# EAGLE library part DRV8302 (library cheetah_driver_2)
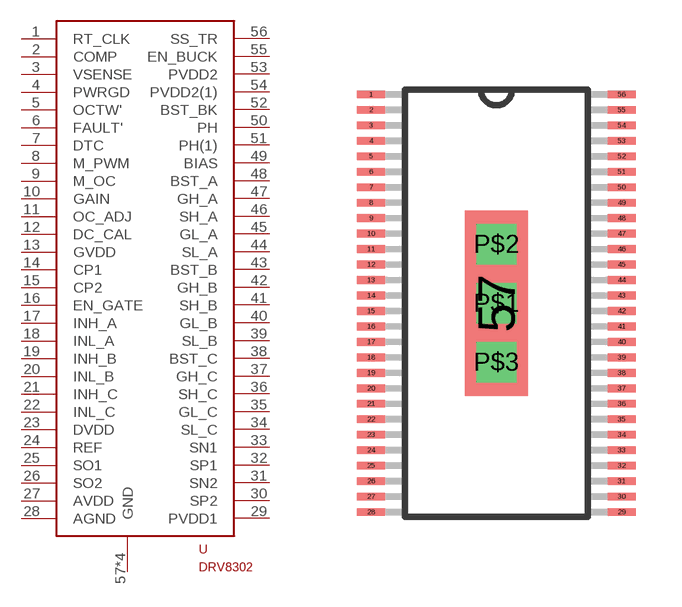
[diagram p0: symbol with the pads of HTSSOP56; footprint HTSSOP56]

Designator prefix -

## DRV8302  [HTSSOP56]
1  RT_CLK
2  COMP
3  VSENSE
4  PWRGD
5  OCTW'
6  FAULT'
7  DTC
8  M_PWM
9  M_OC
10  GAIN
11  OC_ADJ
12  DC_CAL
13  GVDD
14  CP1
15  CP2
16  EN_GATE
17  INH_A
18  INL_A
19  INH_B
20  INL_B
21  INH_C
22  INL_C
23  DVDD
24  REF
25  SO1
26  SO2
27  AVDD
28  AGND
29  PVDD1
30  SP2
31  SN2
32  SP1
33  SN1
34  SL_C
35  GL_C
36  SH_C
37  GH_C
38  BST_C
39  SL_B
40  GL_B
41  SH_B
42  GH_B
43  BST_B
44  SL_A
45  GL_A
46  SH_A
47  GH_A
48  BST_A
49  BIAS
50  PH
51  PH(1)
52  BST_BK
53  PVDD2
54  PVDD2(1)
55  EN_BUCK
56  SS_TR
57  GND
P$1  GND
P$2  GND
P$3  GND

## Footprint HTSSOP56 (pad centres in mm)
HTSSOP56 Auto generated by make-symbol-device-package-bsdl.ulp Rev. 43
smd 0.9 x 0.25: 1 -4.05,6.75; 2 -4.05,6.25; 3 -4.05,5.75; 4 -4.05,5.25; 5 -4.05,4.75; 6 -4.05,4.25; 7 -4.05,3.75; 8 -4.05,3.25; 9 -4.05,2.75; 10 -4.05,2.25; 11 -4.05,1.75; 12 -4.05,1.25; 13 -4.05,0.75; 14 -4.05,0.25; 15 -4.05,-0.25; 16 -4.05,-0.75; 17 -4.05,-1.25; 18 -4.05,-1.75; 19 -4.05,-2.25; 20 -4.05,-2.75; 21 -4.05,-3.25; 22 -4.05,-3.75; 23 -4.05,-4.25; 24 -4.05,-4.75; 25 -4.05,-5.25; 26 -4.05,-5.75; 27 -4.05,-6.25; 28 -4.05,-6.75; 29 4.05,-6.75; 30 4.05,-6.25; 31 4.05,-5.75; 32 4.05,-5.25; 33 4.05,-4.75; 34 4.05,-4.25; 35 4.05,-3.75; 36 4.05,-3.25; 37 4.05,-2.75; 38 4.05,-2.25; 39 4.05,-1.75; 40 4.05,-1.25; 41 4.05,-0.75; 42 4.05,-0.25; 43 4.05,0.25; 44 4.05,0.75; 45 4.05,1.25; 46 4.05,1.75; 47 4.05,2.25; 48 4.05,2.75; 49 4.05,3.25; 50 4.05,3.75; 51 4.05,4.25; 52 4.05,4.75; 53 4.05,5.25; 54 4.05,5.75; 55 4.05,6.25; 56 4.05,6.75
smd 2.032 x 6: 57 0,0
drill 0.8 square: P$1 0,0; P$2 0,1.905; P$3 0,-1.905